# Altium integrated library MicroSd_1051620001.IntLib: 1 symbol
Pins are listed as number, name and electrical type; pins without a type are passive.

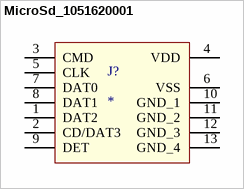
[diagram p0: symbol MicroSd_1051620001]

## MicroSd_1051620001
designator J?
1.45H MICRO SD HEADER WITH D/C P / Manufacturer PN: 1051620001
footprint MicroSd_1051620001
pins: 1 DAT2, 2 CD/DAT3, 3 CMD, 4 VDD, 5 CLK, 6 VSS, 7 DAT0, 8 DAT1, 9 DET, 10 GND_1, 11 GND_2, 12 GND_3, 13 GND_4